# Altium schematic symbol library ACTION原理图库.SCHLIB: 124 symbols
Pins are listed as number, name and electrical type; pins without a type are passive.

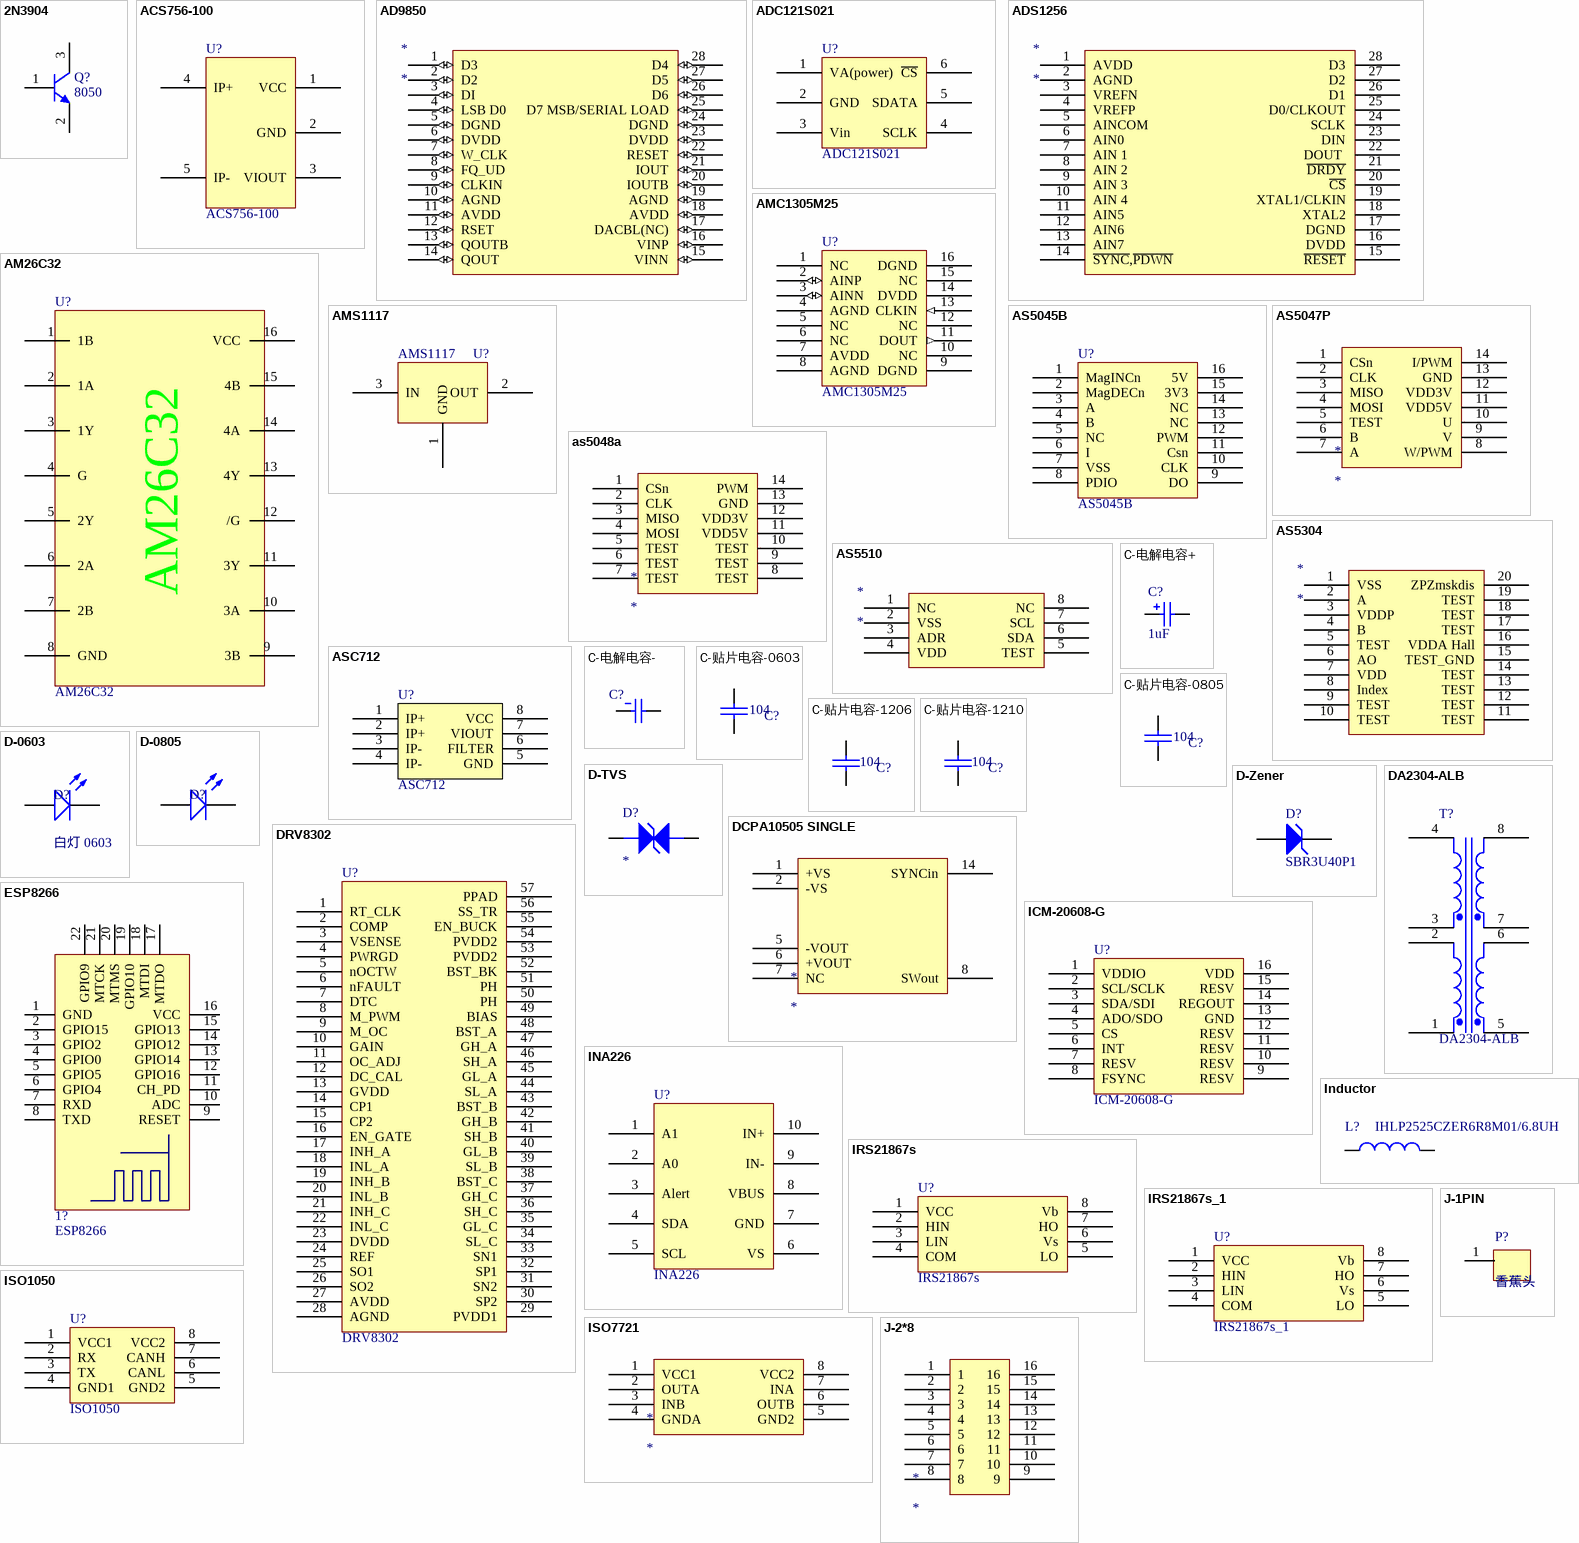
[diagram p0: symbols 2N3904 to J-2*8]

## 2N3904
designator Q?, comment 8050
NPN General Purpose Amplifier; Published: 8-Jun-2000; LatestRevisionDate: 15-Jan-2003; LatestRevisionNote: PCB Footprint 'BCY-W3/D4.7' replaced; DatasheetDocument: 1997; PackageDocument: Sep-1998; PackageReference: TO-92A; Publisher: Altium Limited; Code_JEDEC: TO-92A; ComponentLink1Description: Manufacturer Link; ComponentLink1URL: http://www.fairchildsemi.com/; ComponentLink2Description: Datasheet; ComponentLink2URL: http://www.fairchildsemi.com/ds/2N%2F2N3904.pdf
footprint SOT-233
pins: 1 B, 2 E, 3 C

## ACS756-100
designator U?
pins: 1 VCC, 2 GND, 3 VIOUT, 4 IP+, 5 IP-

## AD9850
designator *
pins: 1 D3 (io), 2 D2 (io), 3 DI (io), 4 LSB D0 (io), 5 DGND (io), 6 DVDD (io), 7 W_CLK (io), 8 FQ_UD (io), 9 CLKIN (io), 10 AGND (io), 11 AVDD (io), 12 RSET (io), 13 QOUTB (io), 14 QOUT (io), 15 VINN (io), 16 VINP (io), 17 DACBL(NC) (io), 18 AVDD (io), 19 AGND (io), 20 IOUTB (io), 21 IOUT (io), 22 RESET (io), 23 DVDD (io), 24 DGND (io), 25 D7 MSB/SERIAL LOAD (io), 26 D6 (io), 27 D5 (io), 28 D4 (io)

## ADC121S021
designator U?
pins: 1 VA(power), 2 GND, 3 Vin, 4 SCLK, 5 SDATA, 6 ~{CS}

## ADS1256
designator *
pins: 1 AVDD, 2 AGND, 3 VREFN, 4 VREFP, 5 AINCOM, 6 AIN0, 7 AIN 1, 8 AIN 2, 9 AIN 3, 10 AIN 4, 11 AIN5, 12 AIN6, 13 AIN7, 14 ~{SYNC},~{PDWN}, 15 ~{RESET}, 16 DVDD, 17 DGND, 18 XTAL2, 19 XTAL1/CLKIN, 20 ~{CS}, 21 ~{DRDY}, 22 DOUT , 23 DIN, 24 SCLK, 25 D0/CLKOUT, 26 D1, 27 D2, 28 D3

## AM26C32
designator U?
footprint SOIC-16 (SOIC, 16-Leads, Body 10.0x3.9mm (max), Pitch 1.27mm, IPC Medium Density)
pins: 1 1B, 2 1A, 3 1Y, 4 G, 5 2Y, 6 2A, 7 2B, 8 GND, 9 3B, 10 3A, 11 3Y, 12 /G, 13 4Y, 14 4A, 15 4B, 16 VCC

## AMC1305M25
designator U?
作者: 王鹏飞; HelpURL: C:\Users\Administrator\Desktop\三相驱动器资料\芯片选型\电流检测芯片选型\备选方案\TI\amc1305m25.pdf#page3
pins: 1 NC, 2 AINP (io) "同向模拟输入", 3 AINN (io) "反向模拟输入", 4 AGND, 5 NC, 6 NC, 7 AVDD (power) "高侧电", 8 AGND (power) "高侧地", 9 DGND "低侧地", 10 NC, 11 DOUT (out), 12 NC, 13 CLKIN (in), 14 DVDD (power) "低侧电", 15 NC, 16 DGND (power)

## AMS1117
designator U?
footprint SOT-223
pins: 1 GND, 2 OUT, 3 IN

## AS5045B
designator U?
footprint SSOP-16
pins: 1 MagINCn, 2 MagDECn, 3 A, 4 B, 5 NC, 6 I, 7 VSS, 8 PDIO, 9 DO, 10 CLK, 11 Csn, 12 PWM, 13 NC, 14 NC, 15 3V3, 16 5V

## AS5047P
designator *
pins: 1 CSn, 2 CLK, 3 MISO, 4 MOSI, 5 TEST, 6 B, 7 A, 8 W/PWM, 9 V, 10 U, 11 VDD5V, 12 VDD3V, 13 GND, 14 I/PWM

## as5048a
designator *
pins: 1 CSn, 2 CLK, 3 MISO, 4 MOSI, 5 TEST, 6 TEST, 7 TEST, 8 TEST, 9 TEST, 10 TEST, 11 VDD5V, 12 VDD3V, 13 GND, 14 PWM

## AS5304
designator *
pins: 1 VSS, 2 A, 3 VDDP, 4 B, 5 TEST, 6 AO, 7 VDD, 8 Index, 9 TEST, 10 TEST, 11 TEST, 12 TEST, 13 TEST, 14 TEST, 15 TEST_GND, 16 VDDA Hall, 17 TEST, 18 TEST, 19 TEST, 20 ZPZmskdis

## AS5510
designator *
pins: 1 NC, 2 VSS, 3 ADR, 4 VDD, 5 TEST, 6 SDA, 7 SCL, 8 NC

## ASC712
designator U?
footprint SOP-8 (SOP, 8-Leads, Body 5.0x4.0mm (max), Pitch 1.27mm, IPC Medium Density)
pins: 1 IP+, 2 IP+, 3 IP-, 4 IP-, 5 GND, 6 FILTER, 7 VIOUT, 8 VCC

## C-电解电容+
designator C?, comment value 1uF  (hidden comment: 105)
Published: 8-Jun-2000; LatestRevisionDate: 17-Jul-2002; LatestRevisionNote: Re-released for DXP Platform.; PackageReference: RB7.6-15; Publisher: Altium Limited
pins: 1, 2
1 alternate drawing of the same symbol

## C-电解电容-
designator C?, comment 105  (value not drawn)
pins: 1, 2

## C-贴片电容-0603
designator C?, comment value 104  (hidden comment: 100nF (104) 10% 50V)
贴片电容
footprint 0603_C
pins: 1, 2

## C-贴片电容-0805
designator C?, comment value 104  (hidden comment: 100nF (104) 10% 50V)
贴片电容
footprint 0805_C
pins: 1, 2

## C-贴片电容-1206
designator C?, comment value 104  (hidden comment: 100nF (104) 10% 50V)
贴片电容
footprint 1206_C
pins: 1, 2

## C-贴片电容-1210
designator C?, comment value 104  (hidden comment: 100nF (104) 10% 50V)
贴片电容
footprint 1210_C
pins: 1, 2

## D-0603
designator D?, comment 白灯 0603
发光二极管; Published: 8-Jun-2000; LatestRevisionDate: 17-Jul-2002; LatestRevisionNote: Re-released for DXP Platform.; PackageDocument: Sep-1996; PackageReference: SMC; Publisher: Altium Limited; Code_JEDEC: DO-214-AB
footprint 0603_LED_S1
pins: A, K

## D-0805
designator D?, comment 白灯 0603  (value not drawn)
发光二极管; Published: 8-Jun-2000; LatestRevisionDate: 17-Jul-2002; LatestRevisionNote: Re-released for DXP Platform.; PackageDocument: Sep-1996; PackageReference: SMC; Publisher: Altium Limited; Code_JEDEC: DO-214-AB
footprint 0805_LED_S1
pins: A, K

## D-TVS
designator D?
TVS
pins: A 1, K 2

## D-Zener
designator D?, comment SBR3U40P1
Diode, Schottky, 40V, 3A, PowerDI123; Published: 8-Jun-2000; LatestRevisionDate: 17-Jul-2002; LatestRevisionNote: Re-released for DXP Platform.; PackageReference: DIODE-0.7; Publisher: Altium Limited
footprint SBR3U40P1
pins: 1 A, 2 K

## DA2304-ALB
designator T?
pins: 1 26, 2 25, 3 24, 4 23, 5 27, 6 28, 7 29, 8 22

## DCPA10505 SINGLE
designator *
pins: 1 +VS, 2 -VS, 5 -VOUT, 6 +VOUT, 7 NC, 8 SWout, 14 SYNCin

## DRV8302
designator U?
footprint HTSSOP-56 (TSSOP, 56-Leads, Body 14.00x6.10mm, Pitch 0.50mm, Thermal Pad 6.35x3.61mm, IPC Medium Density)
pins: 1 RT_CLK, 2 COMP, 3 VSENSE, 4 PWRGD, 5 nOCTW, 6 nFAULT, 7 DTC, 8 M_PWM, 9 M_OC, 10 GAIN, 11 OC_ADJ, 12 DC_CAL, 13 GVDD, 14 CP1, 15 CP2, 16 EN_GATE, 17 INH_A, 18 INL_A, 19 INH_B, 20 INL_B, 21 INH_C, 22 INL_C, 23 DVDD, 24 REF, 25 SO1, 26 SO2, 27 AVDD, 28 AGND, 29 PVDD1, 30 SP2, 31 SN2, 32 SP1, 33 SN1, 34 SL_C, 35 GL_C, 36 SH_C, 37 GH_C, 38 BST_C, 39 SL_B, 40 GL_B, 41 SH_B, 42 GH_B, 43 BST_B, 44 SL_A, 45 GL_A, 46 SH_A, 47 GH_A, 48 BST_A, 49 BIAS, 50 PH, 51 PH, 52 BST_BK, 53 PVDD2, 54 PVDD2, 55 EN_BUCK, 56 SS_TR, 57 PPAD

## ESP8266
designator 1?
pins: 1 GND (oe), 2 GPIO15, 3 GPIO2, 4 GPIO0, 5 GPIO5, 6 GPIO4, 7 RXD, 8 TXD, 9 RESET, 10 ADC, 11 CH_PD, 12 GPIO16, 13 GPIO14, 14 GPIO12, 15 GPIO13, 16 VCC, 17 MTDO, 18 MTDI, 19 GPIO10, 20 MTMS, 21 MTCK, 22 GPIO9

## ICM-20608-G
designator U?
pins: 1 VDDIO, 2 SCL/SCLK, 3 SDA/SDI, 4 ADO/SDO, 5 CS, 6 INT, 7 RESV, 8 FSYNC, 9 RESV, 10 RESV, 11 RESV, 12 RESV, 13 GND, 14 REGOUT, 15 RESV, 16 VDD

## INA226
designator U?
pins: 1 A1, 2 A0, 3 Alert, 4 SDA, 5 SCL, 6 VS, 7 GND, 8 VBUS, 9 IN-, 10 IN+

## Inductor
designator L?, comment IHLP2525CZER6R8M01/6.8UH
Inductor; Code_IEC: 1005; Value: 4.7uh; Published: 8-Jun-2000; LatestRevisionDate: 17-Jul-2002; LatestRevisionNote: Re-released for DXP Platform.; PackageReference: 0402-A; Publisher: Altium Limited; Code_JEITA: 0402
footprint L-RH73 (Molded Capacitor, 2-Leads, Body 6.9x6.5mm, IPC Medium Density)
pins: 1, 2

## IRS21867s
designator U?
footprint sop-8 (SOP, 8-Leads, Body 5.0x4.0mm (max), Pitch 1.27mm, IPC Medium Density)
pins: 1 VCC, 2 HIN, 3 LIN, 4 COM, 5 LO, 6 Vs, 7 HO, 8 Vb

## IRS21867s_1
designator U?
footprint sop-8 (SOP, 8-Leads, Body 5.0x4.0mm (max), Pitch 1.27mm, IPC Medium Density)
pins: 1 VCC, 2 HIN, 3 LIN, 4 COM, 5 LO, 6 Vs, 7 HO, 8 Vb

## ISO1050
designator U?
footprint SO-8W
pins: 1 VCC1, 2 RX, 3 TX, 4 GND1, 5 GND2, 6 CANL, 7 CANH, 8 VCC2

## ISO7721
designator *
pins: 1 VCC1, 2 OUTA, 3 INB, 4 GNDA, 5 GND2, 6 OUTB, 7 INA, 8 VCC2

## J-1PIN
designator P?, comment 香蕉头
pins: 1 15

## J-2*8
designator *
pins: 1, 2, 3, 4, 5, 6, 7, 8, 9, 10, 11, 12, 13, 14, 15, 16

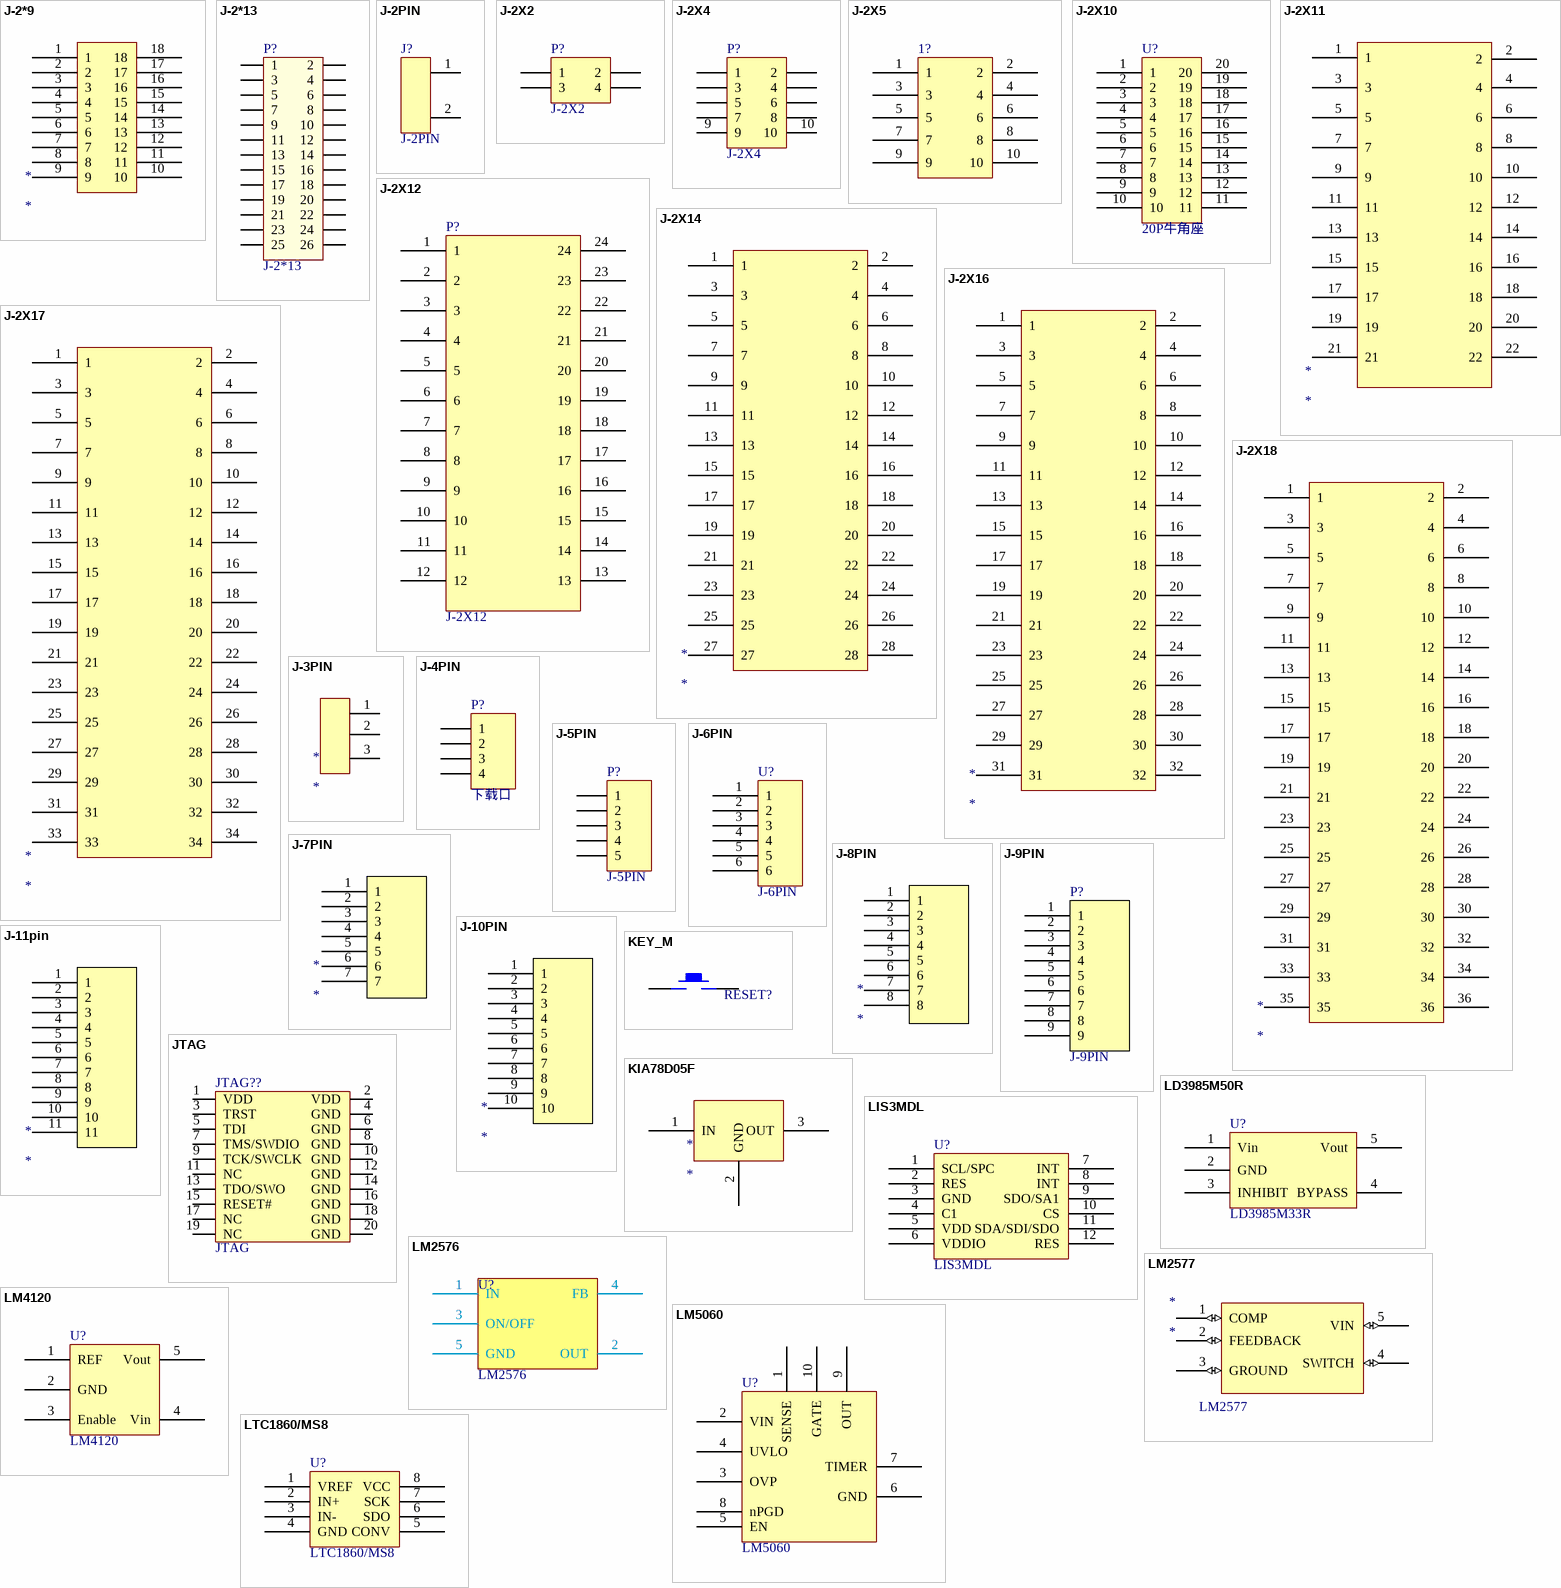
[diagram p1: symbols J-2*9 to LTC1860/MS8]

## J-2*9
designator *
pins: 1, 2, 3, 4, 5, 6, 7, 8, 9, 10, 11, 12, 13, 14, 15, 16, 17, 18

## J-2*13
designator P?
pins: 1, 2, 3, 4, 5, 6, 7, 8, 9, 10, 11, 12, 13, 14, 15, 16, 17, 18, 19, 20, 21, 22, 23, 24, 25, 26

## J-2PIN
designator J?
SOCKET
pins: 1, 2

## J-2X2
designator P?
Header, 2-Pin, Dual row; LatestRevisionDate: 17-Jul-2002; LatestRevisionNote: Re-released for DXP Platform.; Publisher: Altium Limited
pins: 1, 2, 3, 4

## J-2X4
designator P?
Header, 4-Pin, Dual row; LatestRevisionDate: 17-Jul-2002; LatestRevisionNote: Re-released for DXP Platform.; Publisher: Altium Limited
pins: 1, 2, 3, 4, 5, 6, 7, 8, 9, 10

## J-2X5
designator 1?
pins: 1, 2, 3, 4, 5, 6, 7, 8, 9, 10

## J-2X10
designator U?, comment 20P牛角座
1.27-20P牛角座
pins: 1, 2, 3, 4, 5, 6, 7, 8, 9, 10, 11, 12, 13, 14, 15, 16, 17, 18, 19, 20

## J-2X11
designator *
footprint HDR2X11 (Connector; Header; 11x2 Position)
pins: 1, 2, 3, 4, 5, 6, 7, 8, 9, 10, 11, 12, 13, 14, 15, 16, 17, 18, 19, 20, 21, 22

## J-2X12
designator P?
pins: 1, 2, 3, 4, 5, 6, 7, 8, 9, 10, 11, 12, 13, 14, 15, 16, 17, 18, 19, 20, 21, 22, 23, 24

## J-2X14
designator *
pins: 1, 2, 3, 4, 5, 6, 7, 8, 9, 10, 11, 12, 13, 14, 15, 16, 17, 18, 19, 20, 21, 22, 23, 24, 25, 26, 27, 28

## J-2X16
designator *
pins: 1, 2, 3, 4, 5, 6, 7, 8, 9, 10, 11, 12, 13, 14, 15, 16, 17, 18, 19, 20, 21, 22, 23, 24, 25, 26, 27, 28, 29, 30, 31, 32

## J-2X17
designator *
pins: 1, 2, 3, 4, 5, 6, 7, 8, 9, 10, 11, 12, 13, 14, 15, 16, 17, 18, 19, 20, 21, 22, 23, 24, 25, 26, 27, 28, 29, 30, 31, 32, 33, 34

## J-2X18
designator *
pins: 1, 2, 3, 4, 5, 6, 7, 8, 9, 10, 11, 12, 13, 14, 15, 16, 17, 18, 19, 20, 21, 22, 23, 24, 25, 26, 27, 28, 29, 30, 31, 32, 33, 34, 35, 36

## J-3PIN
designator *
pins: 1, 2, 3 2

## J-4PIN
designator P?, comment 下载口
Header, 4-Pin; LatestRevisionDate: 17-Jul-2002; LatestRevisionNote: Re-released for DXP Platform.; Publisher: Altium Limited
pins: 1, 2, 3, 4

## J-5PIN
designator P?
Header, 5-Pin; LatestRevisionDate: 17-Jul-2002; LatestRevisionNote: Re-released for DXP Platform.; Publisher: Altium Limited
pins: 1, 2, 3, 4, 5

## J-6PIN
designator U?
pins: 1, 2, 3, 4, 5, 6

## J-7PIN
designator *
pins: 1, 2, 3, 4, 5, 6, 7

## J-8PIN
designator *
pins: 1, 2, 3, 4, 5, 6, 7, 8

## J-9PIN
designator P?
pins: 1, 2, 3, 4, 5, 6, 7, 8, 9

## J-10PIN
designator *
pins: 1, 2, 3, 4, 5, 6, 7, 8, 9, 10

## J-11pin
designator *
pins: 1, 2, 3, 4, 5, 6, 7, 8, 9, 10, 11

## JTAG
designator JTAG??
footprint JTAG (ULINK_JTAG-20)
footprint JTAG_20
footprint JTAG_20
footprint JTAG_20
pins: 1 VDD, 2 VDD, 3 TRST, 4 GND, 5 TDI, 6 GND, 7 TMS/SWDIO, 8 GND, 9 TCK/SWCLK, 10 GND, 11 NC, 12 GND, 13 TDO/SWO, 14 GND, 15 RESET#, 16 GND, 17 NC, 18 GND, 19 NC, 20 GND

## KEY_M
designator RESET?  (value not drawn)
footprint 按键2脚
pins: 1, 2

## KIA78D05F
designator *
pins: 1 IN, 2 GND, 3 OUT

## LD3985M50R
designator U?, comment LD3985M33R
LD3985M50R
pins: 1 Vin, 2 GND, 3 INHIBIT, 4 BYPASS, 5 Vout

## LIS3MDL
designator U?
pins: 1 SCL/SPC, 2 RES, 3 GND, 4 C1, 5 VDD, 6 VDDIO, 7 INT, 8 INT, 9 SDO/SA1, 10 CS, 11 SDA/SDI/SDO, 12 RES

## LM2576
designator U?
footprint TO-236-5 (SOT223, 6-Leads, Body 10.7x15.9mm (max), Pitch 1.70mm, IPC Medium Density)
pins: 1 IN, 2 OUT, 3 ON/OFF, 4 FB, 5 GND

## LM2577
designator *
pins: 1 COMP (io), 2 FEEDBACK (io), 3 GROUND (io), 4 SWITCH (io), 5 VIN (io)

## LM4120
designator U?
pins: 1 REF, 2 GND, 3 Enable, 4 Vin, 5 Vout

## LM5060
designator U?
pins: 1 SENSE, 2 VIN, 3 OVP, 4 UVLO, 5 EN, 6 GND, 7 TIMER, 8 nPGD, 9 OUT, 10 GATE

## LTC1860/MS8
designator U?
LTC1860
pins: 1 VREF, 2 IN+, 3 IN-, 4 GND, 5 CONV, 6 SDO, 7 SCK, 8 VCC

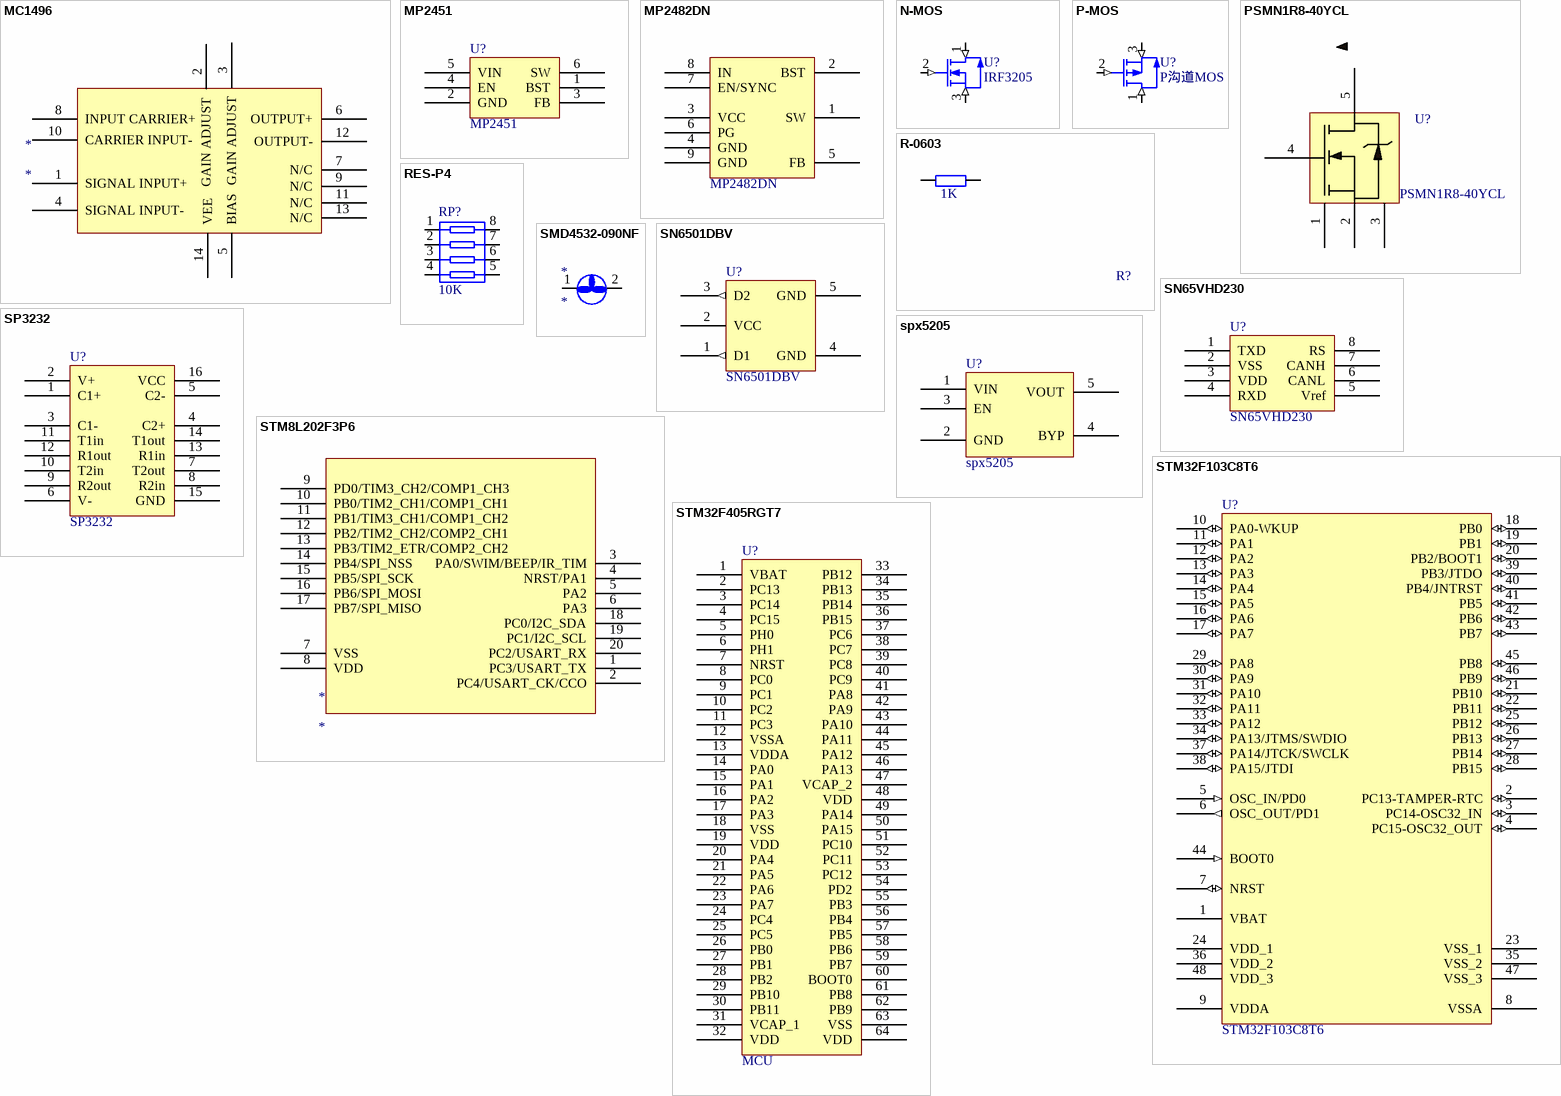
[diagram p2: symbols MC1496 to STM32F405RGT7]

## MC1496
designator *
pins: 1 SIGNAL INPUT+, 2 GAIN ADJUST, 3 GAIN ADJUST, 4 SIGNAL INPUT-, 5 BIAS, 6 OUTPUT+, 7 N/C, 8 INPUT CARRIER+, 9 N/C, 10 CARRIER INPUT-, 11 N/C, 12 OUTPUT-, 13 N/C, 14 VEE

## MP2451
designator U?
pins: 1 BST, 2 GND, 3 FB, 4 EN, 5 VIN, 6 SW

## MP2482DN
designator ?
footprint MP2482DN
pins: 1 SW, 2 BST, 3 VCC, 4 GND, 5 FB, 6 PG, 7 EN/SYNC, 8 IN, 9 GND

## N-MOS
designator U?, comment IRF3205
pins: 1 D (in), 2 G (in), 3 S (in)

## P-MOS
designator U?, comment P沟道MOS
pins: 1 D (in), 2 G (in), 3 S (in)

## PSMN1R8-40YCL
designator U?
pins: 1 S, 2 S, 3 S, 4 G, 5 D

## R-0603
designator R?, comment value 1K  (hidden comment: 1KΩ (102) ±1%)
贴片电阻; Package: 0603
footprint 0603_R
pins: 1, 2

## RES-P4
designator RP?, comment 10K
pins: 1, 2, 3, 4, 5, 6, 7, 8
2 alternate drawings of the same symbol

## SMD4532-090NF
designator *
pins: 1, 2

## SN65VHD230
designator U?
footprint SOp-8 (SOP, 8-Leads, Body 5.0x4.0mm (max), Pitch 1.27mm, IPC Medium Density)
pins: 1 TXD, 2 VSS, 3 VDD, 4 RXD, 5 Vref, 6 CANL, 7 CANH, 8 RS

## SN6501DBV
designator U?
pins: 1 D1 (out), 2 VCC (power), 3 D2 (out), 4 GND (power), 5 GND (power)

## SP3232
designator U?
pins: 1 C1+, 2 V+, 3 C1-, 4 C2+, 5 C2-, 6 V-, 7 T2out, 8 R2in, 9 R2out, 10 T2in, 11 T1in, 12 R1out, 13 R1in, 14 T1out, 15 GND, 16 VCC

## spx5205
designator U?
footprint SOT-235 (SOT23, 5-Leads, Body 3.0x2.6mm (max), Pitch 0.95mm, IPC Medium Density)
pins: 1 VIN, 2 GND, 3 EN, 4 BYP, 5 VOUT

## STM8L202F3P6
designator *
pins: 1 PC3/USART_TX (power), 2 PC4/USART_CK/CCO (power), 3 PA0/SWIM/BEEP/IR_TIM (power), 4 NRST/PA1 (power), 5 PA2, 6 PA3, 7 VSS (power), 8 VDD (power), 9 PD0/TIM3_CH2/COMP1_CH3, 10 PB0/TIM2_CH1/COMP1_CH1, 11 PB1/TIM3_CH1/COMP1_CH2 (power), 12 PB2/TIM2_CH2/COMP2_CH1 (power), 13 PB3/TIM2_ETR/COMP2_CH2, 14 PB4/SPI_NSS, 15 PB5/SPI_SCK, 16 PB6/SPI_MOSI, 17 PB7/SPI_MISO (power), 18 PC0/I2C_SDA, 19 PC1/I2C_SCL, 20 PC2/USART_RX

## STM32F103C8T6
designator U?
footprint LQFP-48
pins: 1 VBAT (power), 2 PC13-TAMPER-RTC (io), 3 PC14-OSC32_IN (io), 4 PC15-OSC32_OUT (io), 5 OSC_IN/PD0 (in), 6 OSC_OUT/PD1 (out), 7 NRST (io), 8 VSSA (power), 9 VDDA (power), 10 PA0-WKUP (io), 11 PA1 (io), 12 PA2 (io), 13 PA3 (io), 14 PA4 (io), 15 PA5 (io), 16 PA6 (io), 17 PA7 (io), 18 PB0 (io), 19 PB1 (io), 20 PB2/BOOT1 (io), 21 PB10 (io), 22 PB11 (io), 23 VSS_1 (power), 24 VDD_1 (power), 25 PB12 (io), 26 PB13 (io), 27 PB14 (io), 28 PB15 (io), 29 PA8 (io), 30 PA9 (io), 31 PA10 (io), 32 PA11 (io), 33 PA12 (io), 34 PA13/JTMS/SWDIO (io), 35 VSS_2 (power), 36 VDD_2 (power), 37 PA14/JTCK/SWCLK (io), 38 PA15/JTDI (io), 39 PB3/JTDO (io), 40 PB4/JNTRST (io), 41 PB5 (io), 42 PB6 (io), 43 PB7 (io), 44 BOOT0 (in), 45 PB8 (io), 46 PB9 (io), 47 VSS_3 (power), 48 VDD_3 (power)

## STM32F405RGT7
designator U?, comment MCU
footprint LQFP-64
pins: 1 VBAT, 2 PC13, 3 PC14, 4 PC15, 5 PH0, 6 PH1, 7 NRST, 8 PC0, 9 PC1, 10 PC2, 11 PC3, 12 VSSA, 13 VDDA, 14 PA0, 15 PA1, 16 PA2, 17 PA3, 18 VSS, 19 VDD, 20 PA4, 21 PA5, 22 PA6, 23 PA7, 24 PC4, 25 PC5, 26 PB0, 27 PB1, 28 PB2, 29 PB10, 30 PB11, 31 VCAP_1, 32 VDD, 33 PB12, 34 PB13, 35 PB14, 36 PB15, 37 PC6, 38 PC7, 39 PC8, 40 PC9, 41 PA8, 42 PA9, 43 PA10, 44 PA11, 45 PA12, 46 PA13, 47 VCAP_2, 48 VDD, 49 PA14, 50 PA15, 51 PC10, 52 PC11, 53 PC12, 54 PD2, 55 PB3, 56 PB4, 57 PB5, 58 PB6, 59 PB7, 60 BOOT0, 61 PB8, 62 PB9, 63 VSS, 64 VDD

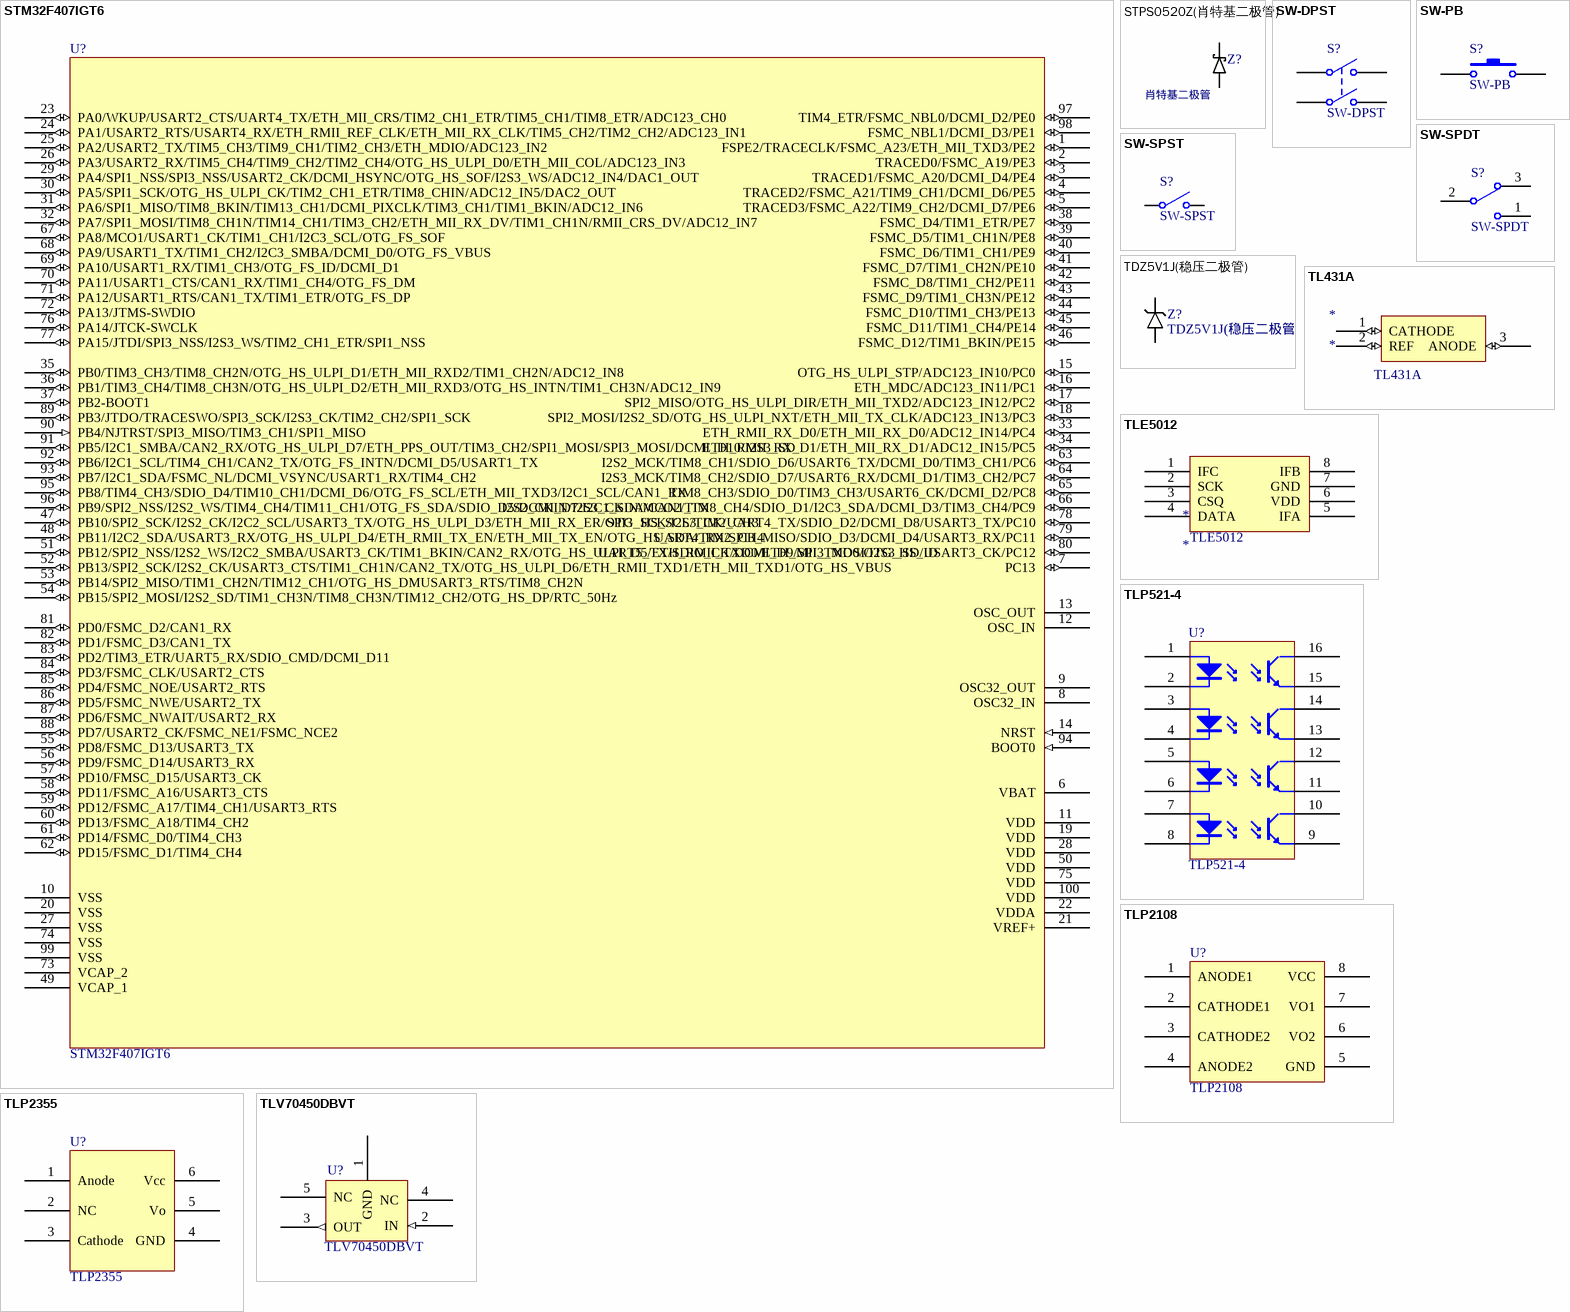
[diagram p3: symbols STM32F407IGT6 to TLV70450DBVT]

## STM32F407IGT6
designator U?
pins: 1 FSPE2/TRACECLK/FSMC_A23/ETH_MII_TXD3/PE2 (io), 2 TRACED0/FSMC_A19/PE3 (io), 3 TRACED1/FSMC_A20/DCMI_D4/PE4 (io), 4 TRACED2/FSMC_A21/TIM9_CH1/DCMI_D6/PE5 (io), 5 TRACED3/FSMC_A22/TIM9_CH2/DCMI_D7/PE6 (io), 6 VBAT, 7 PC13 (io), 8 OSC32_IN, 9 OSC32_OUT, 10 VSS (power), 11 VDD, 12 OSC_IN, 13 OSC_OUT, 14 NRST (in), 15 OTG_HS_ULPI_STP/ADC123_IN10/PC0 (io), 16 ETH_MDC/ADC123_IN11/PC1 (io), 17 SPI2_MISO/OTG_HS_ULPI_DIR/ETH_MII_TXD2/ADC123_IN12/PC2 (io), 18 SPI2_MOSI/I2S2_SD/OTG_HS_ULPI_NXT/ETH_MII_TX_CLK/ADC123_IN13/PC3 (io), 19 VDD, 20 VSS (power), 21 VREF+, 22 VDDA, 23 PA0/WKUP/USART2_CTS/UART4_TX/ETH_MII_CRS/TIM2_CH1_ETR/TIM5_CH1/TIM8_ETR/ADC123_CH0 (io), 24 PA1/USART2_RTS/USART4_RX/ETH_RMII_REF_CLK/ETH_MII_RX_CLK/TIM5_CH2/TIM2_CH2/ADC123_IN1 (io), 25 PA2/USART2_TX/TIM5_CH3/TIM9_CH1/TIM2_CH3/ETH_MDIO/ADC123_IN2 (io), 26 PA3/USART2_RX/TIM5_CH4/TIM9_CH2/TIM2_CH4/OTG_HS_ULPI_D0/ETH_MII_COL/ADC123_IN3 (io), 27 VSS (power), 28 VDD, 29 PA4/SPI1_NSS/SPI3_NSS/USART2_CK/DCMI_HSYNC/OTG_HS_SOF/I2S3_WS/ADC12_IN4/DAC1_OUT (io), 30 PA5/SPI1_SCK/OTG_HS_ULPI_CK/TIM2_CH1_ETR/TIM8_CHIN/ADC12_IN5/DAC2_OUT (io), 31 PA6/SPI1_MISO/TIM8_BKIN/TIM13_CH1/DCMI_PIXCLK/TIM3_CH1/TIM1_BKIN/ADC12_IN6 (io), 32 PA7/SPI1_MOSI/TIM8_CH1N/TIM14_CH1/TIM3_CH2/ETH_MII_RX_DV/TIM1_CH1N/RMII_CRS_DV/ADC12_IN7 (io), 33 ETH_RMII_RX_D0/ETH_MII_RX_D0/ADC12_IN14/PC4 (io), 34 ETH_RMII_RX_D1/ETH_MII_RX_D1/ADC12_IN15/PC5 (io), 35 PB0/TIM3_CH3/TIM8_CH2N/OTG_HS_ULPI_D1/ETH_MII_RXD2/TIM1_CH2N/ADC12_IN8 (io), 36 PB1/TIM3_CH4/TIM8_CH3N/OTG_HS_ULPI_D2/ETH_MII_RXD3/OTG_HS_INTN/TIM1_CH3N/ADC12_IN9 (io), 37 PB2-BOOT1 (io), 38 FSMC_D4/TIM1_ETR/PE7 (io), 39 FSMC_D5/TIM1_CH1N/PE8 (io), 40 FSMC_D6/TIM1_CH1/PE9 (io), 41 FSMC_D7/TIM1_CH2N/PE10 (io), 42 FSMC_D8/TIM1_CH2/PE11 (io), 43 FSMC_D9/TIM1_CH3N/PE12 (io), 44 FSMC_D10/TIM1_CH3/PE13 (io), 45 FSMC_D11/TIM1_CH4/PE14 (io), 46 FSMC_D12/TIM1_BKIN/PE15 (io), 47 PB10/SPI2_SCK/I2S2_CK/I2C2_SCL/USART3_TX/OTG_HS_ULPI_D3/ETH_MII_RX_ER/OTG_HS_SCL/TIM2_CH3 (io), 48 PB11/I2C2_SDA/USART3_RX/OTG_HS_ULPI_D4/ETH_RMII_TX_EN/ETH_MII_TX_EN/OTG_HS_SDA/TIM2_CH4 (io), 49 VCAP_1, 50 VDD, 51 PB12/SPI2_NSS/I2S2_WS/I2C2_SMBA/USART3_CK/TIM1_BKIN/CAN2_RX/OTG_HS_ULPI_D5/ETH_RMII_TXD0/ETH_MII_TXD0/OTG_HS_ID (io), 52 PB13/SPI2_SCK/I2S2_CK/USART3_CTS/TIM1_CH1N/CAN2_TX/OTG_HS_ULPI_D6/ETH_RMII_TXD1/ETH_MII_TXD1/OTG_HS_VBUS (io), 53 PB14/SPI2_MISO/TIM1_CH2N/TIM12_CH1/OTG_HS_DMUSART3_RTS/TIM8_CH2N (io), 54 PB15/SPI2_MOSI/I2S2_SD/TIM1_CH3N/TIM8_CH3N/TIM12_CH2/OTG_HS_DP/RTC_50Hz (io), 55 PD8/FSMC_D13/USART3_TX (io), 56 PD9/FSMC_D14/USART3_RX (io), 57 PD10/FMSC_D15/USART3_CK (io), 58 PD11/FSMC_A16/USART3_CTS (io), 59 PD12/FSMC_A17/TIM4_CH1/USART3_RTS (io), 60 PD13/FSMC_A18/TIM4_CH2 (io), 61 PD14/FSMC_D0/TIM4_CH3 (io), 62 PD15/FSMC_D1/TIM4_CH4 (io), 63 I2S2_MCK/TIM8_CH1/SDIO_D6/USART6_TX/DCMI_D0/TIM3_CH1/PC6 (io), 64 I2S3_MCK/TIM8_CH2/SDIO_D7/USART6_RX/DCMI_D1/TIM3_CH2/PC7 (io), 65 TIM8_CH3/SDIO_D0/TIM3_CH3/USART6_CK/DCMI_D2/PC8 (io), 66 I2S2_CKIN/I2S3_CKIN/MCO2/TIM8_CH4/SDIO_D1/I2C3_SDA/DCMI_D3/TIM3_CH4/PC9 (io), 67 PA8/MCO1/USART1_CK/TIM1_CH1/I2C3_SCL/OTG_FS_SOF (io), 68 PA9/USART1_TX/TIM1_CH2/I2C3_SMBA/DCMI_D0/OTG_FS_VBUS (io), 69 PA10/USART1_RX/TIM1_CH3/OTG_FS_ID/DCMI_D1 (io), 70 PA11/USART1_CTS/CAN1_RX/TIM1_CH4/OTG_FS_DM (io), 71 PA12/USART1_RTS/CAN1_TX/TIM1_ETR/OTG_FS_DP (io), 72 PA13/JTMS-SWDIO (io), 73 VCAP_2, 74 VSS, 75 VDD, 76 PA14/JTCK-SWCLK (io), 77 PA15/JTDI/SPI3_NSS/I2S3_WS/TIM2_CH1_ETR/SPI1_NSS (io), 78 SPI3_SCK/I2S3_CK/UART4_TX/SDIO_D2/DCMI_D8/USART3_TX/PC10 (io), 79 UART4_RX/SPI3_MISO/SDIO_D3/DCMI_D4/USART3_RX/PC11 (io), 80 UART5_TX/SDIO_CK/DCMI_D9/SPI3_MOSI/I2S3_SD/USART3_CK/PC12 (io), 81 PD0/FSMC_D2/CAN1_RX (io), 82 PD1/FSMC_D3/CAN1_TX (io), 83 PD2/TIM3_ETR/UART5_RX/SDIO_CMD/DCMI_D11 (io), 84 PD3/FSMC_CLK/USART2_CTS (io), 85 PD4/FSMC_NOE/USART2_RTS (io), 86 PD5/FSMC_NWE/USART2_TX (io), 87 PD6/FSMC_NWAIT/USART2_RX (io), 88 PD7/USART2_CK/FSMC_NE1/FSMC_NCE2 (io), 89 PB3/JTDO/TRACESWO/SPI3_SCK/I2S3_CK/TIM2_CH2/SPI1_SCK (io), 90 PB4/NJTRST/SPI3_MISO/TIM3_CH1/SPI1_MISO (in), 91 PB5/I2C1_SMBA/CAN2_RX/OTG_HS_ULPI_D7/ETH_PPS_OUT/TIM3_CH2/SPI1_MOSI/SPI3_MOSI/DCMI_D10/I2S3_SD (io), 92 PB6/I2C1_SCL/TIM4_CH1/CAN2_TX/OTG_FS_INTN/DCMI_D5/USART1_TX (io), 93 PB7/I2C1_SDA/FSMC_NL/DCMI_VSYNC/USART1_RX/TIM4_CH2 (io), 94 BOOT0 (in), 95 PB8/TIM4_CH3/SDIO_D4/TIM10_CH1/DCMI_D6/OTG_FS_SCL/ETH_MII_TXD3/I2C1_SCL/CAN1_RX (io), 96 PB9/SPI2_NSS/I2S2_WS/TIM4_CH4/TIM11_CH1/OTG_FS_SDA/SDIO_D5/DCMI_D7/I2C1_SDA/CAN1_TX (io), 97 TIM4_ETR/FSMC_NBL0/DCMI_D2/PE0 (io), 98 FSMC_NBL1/DCMI_D3/PE1 (io), 99 VSS (power), 100 VDD (power)

## STPS0520Z(肖特基二极管)
designator Z?, comment 肖特基二极管
pins: 1, 2

## SW-DPST
designator S?
Double-Pole, Single-Throw Switch; Published: 24-Mar-1999; LatestRevisionDate: 17-Jul-2002; LatestRevisionNote: Re-released for DXP Platform.; PackageReference: DPST-4; Publisher: Altium Limited
pins: 1 COMMON1, 2 NO1, 3 COMMON2, 4 NO2

## SW-PB
designator S?
Switch; Published: 24-Mar-1999; LatestRevisionDate: 17-Jul-2002; LatestRevisionNote: Re-released for DXP Platform.; PackageReference: SPST-2; Publisher: Altium Limited
pins: 1, 2

## SW-SPDT
designator S?
SPDT Subminiature Toggle Switch, Right Angle Mounting, Vertical Actuation; Published: 24-Mar-1999; LatestRevisionDate: 17-Dec-2003; LatestRevisionNote: Schematic revised, PCB Footprint replaced.; DatasheetDocument: 05-Dec-2000; PackageReference: TL36WW15050; Publisher: Altium Limited; ComponentLink1Description: Manufacturer Link; ComponentLink1URL: http://www.apem.com
pins: 1, 2, 3

## SW-SPST
designator S?
Single-Pole, Single-Throw Switch; Published: 24-Mar-1999; LatestRevisionDate: 17-Jul-2002; LatestRevisionNote: Re-released for DXP Platform.; PackageReference: SPST-2; Publisher: Altium Limited
pins: 1 COMMON, 2 NO

## TDZ5V1J(稳压二极管)
designator Z?
pins: 1, 2

## TL431A
designator *
pins: 1 CATHODE (io), 2 REF (io), 3 ANODE (io)

## TLE5012
designator *
pins: 1 IFC, 2 SCK, 3 CSQ, 4 DATA, 5 IFA, 6 VDD, 7 GND, 8 IFB

## TLP521-4
designator U?
pins: 1, 2, 3, 4, 5, 6, 7, 8, 9, 10, 11, 12, 13, 14, 15, 16
2 alternate drawings of the same symbol

## TLP2108
designator U?
footprint SOIC-8 (SOIC, 8-Leads, Body 5.0x4.0mm (max), Pitch 1.27mm, IPC Medium Density)
pins: 1 ANODE1, 2 CATHODE1, 3 CATHODE2, 4 ANODE2, 5 GND, 6 VO2, 7 VO1, 8 VCC

## TLP2355
designator U?
pins: 1 Anode, 2 NC, 3 Cathode, 4 GND, 5 Vo, 6 Vcc

## TLV70450DBVT
designator U?
pins: 1 GND, 2 IN (in), 3 OUT (out), 4 NC, 5 NC

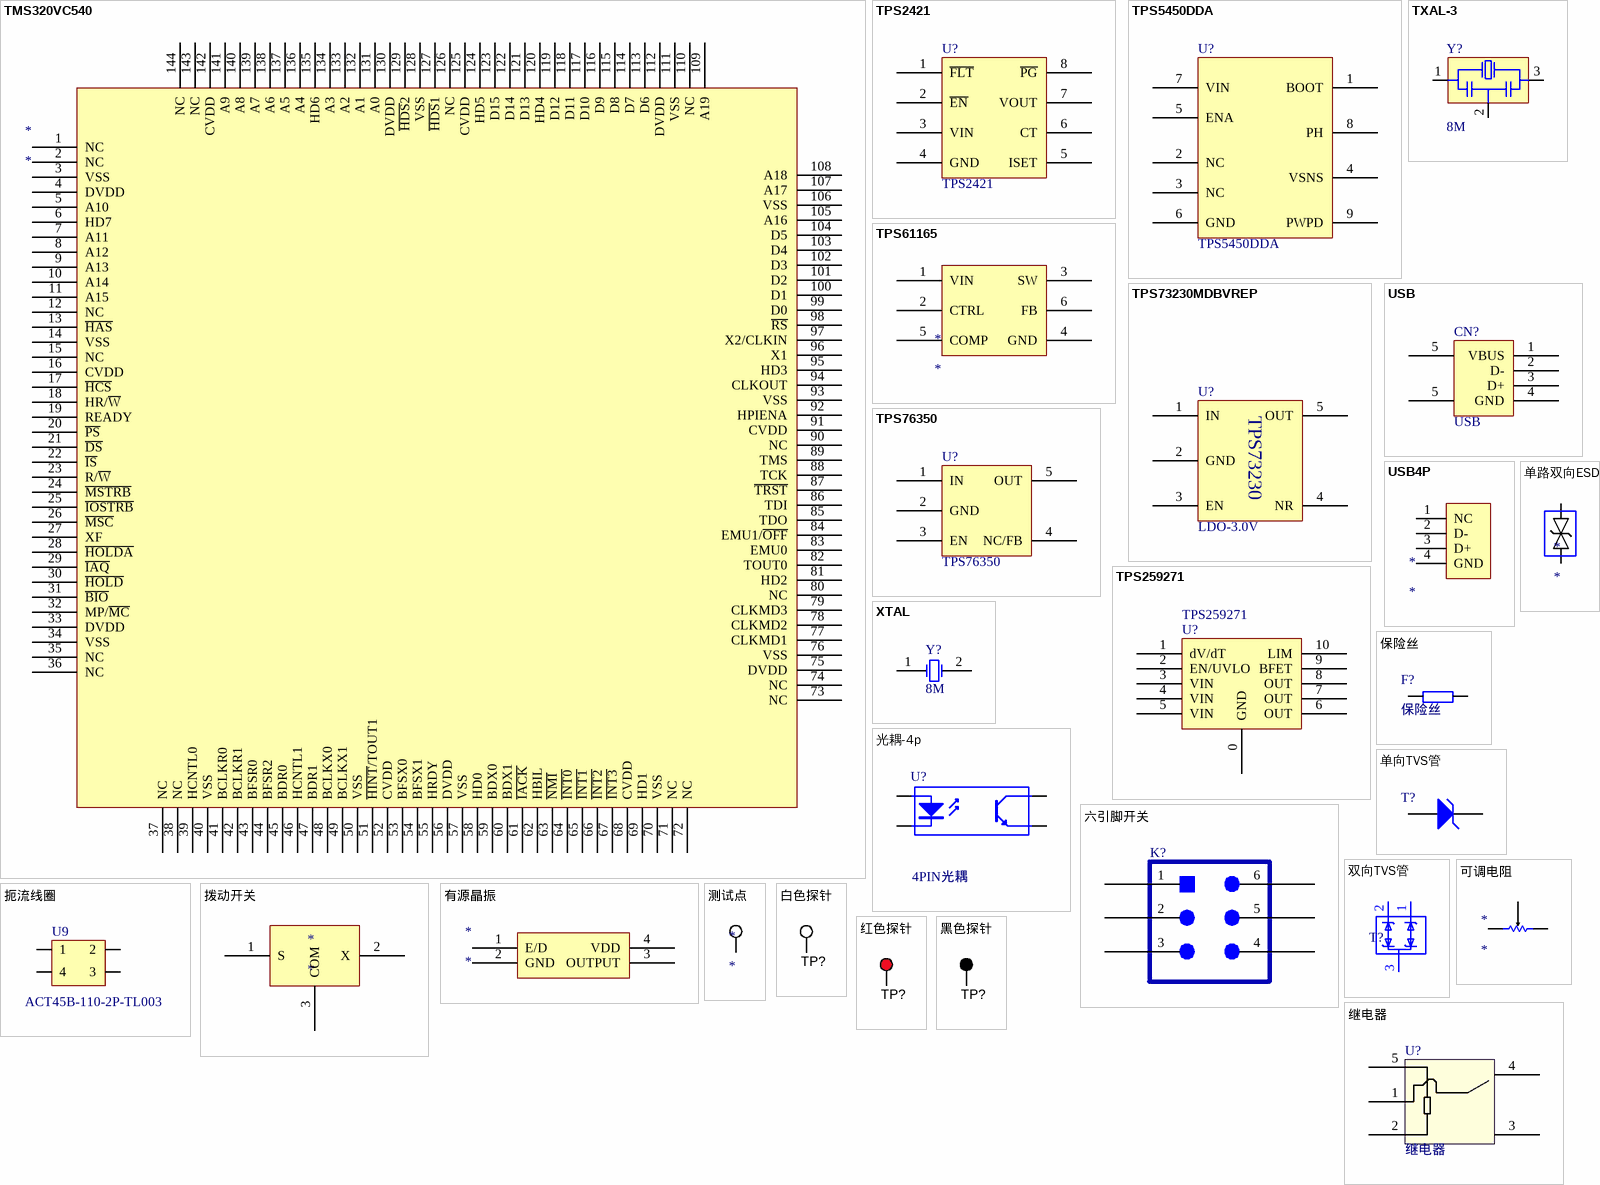
[diagram p4: symbols TMS320VC540 to 黑色探针]

## TMS320VC540
designator *
pins: 1 NC, 2 NC, 3 VSS, 4 DVDD, 5 A10, 6 HD7, 7 A11, 8 A12, 9 A13, 10 A14, 11 A15, 12 NC, 13 ~{HAS}, 14 VSS, 15 NC, 16 CVDD, 17 ~{HCS}, 18 HR/~{W}, 19 READY, 20 ~{PS}, 21 ~{DS}, 22 ~{IS}, 23 R/~{W}, 24 ~{MSTRB}, 25 ~{IOSTRB}, 26 ~{MSC}, 27 XF, 28 ~{HOLDA}, 29 ~{IAQ}, 30 ~{HOLD}, 31 ~{BIO}, 32 MP/~{MC}, 33 DVDD, 34 VSS, 35 NC, 36 NC, 37 NC, 38 NC, 39 HCNTL0, 40 VSS, 41 BCLKR0, 42 BCLKR1, 43 BFSR0, 44 BFSR2, 45 BDR0, 46 HCNTL1, 47 BDR1, 48 BCLKX0, 49 BCLKX1, 50 VSS, 51 ~{HINT}/TOUT1, 52 CVDD, 53 BFSX0, 54 BFSX1, 55 HRDY, 56 DVDD, 57 VSS, 58 HD0, 59 BDX0, 60 BDX1, 61 ~{IACK}, 62 HBIL, 63 ~{NMI}, 64 ~{INT0}, 65 ~{INT1}, 66 ~{INT2}, 67 ~{INT3}, 68 CVDD, 69 HD1, 70 VSS, 71 NC, 72 NC, 73 NC, 74 NC, 75 DVDD, 76 VSS, 77 CLKMD1, 78 CLKMD2, 79 CLKMD3, 80 NC, 81 HD2, 82 TOUT0, 83 EMU0, 84 EMU1/~{OFF}, 85 TDO, 86 TDI, 87 ~{TRST}, 88 TCK, 89 TMS, 90 NC, 91 CVDD, 92 HPIENA, 93 VSS, 94 CLKOUT, 95 HD3, 96 X1, 97 X2/CLKIN, 98 ~{RS}, 99 D0, 100 D1, 101 D2, 102 D3, 103 D4, 104 D5, 105 A16, 106 VSS, 107 A17, 108 A18, 109 A19, 110 NC, 111 VSS, 112 DVDD, 113 D6, 114 D7, 115 D8, 116 D9, 117 D10, 118 D11, 119 D12, 120 HD4, 121 D13, 122 D14, 123 D15, 124 HD5, 125 CVDD, 126 NC, 127 ~{HDS}1, 128 VSS, 129 ~{HDS}2, 130 DVDD, 131 A0, 132 A1, 133 A2, 134 A3, 135 HD6, 136 A4, 137 A5, 138 A6, 139 A7, 140 A8, 141 A9, 142 CVDD, 143 NC, 144 NC

## TPS2421
designator U?
footprint SOIC-8 (SOIC, 8-Leads, Body 5.0x4.0mm (max), Pitch 1.27mm, IPC Medium Density)
pins: 1 ~{FLT}, 2 ~{EN}, 3 VIN, 4 GND, 5 ISET, 6 CT, 7 VOUT, 8 ~{PG}

## TPS5450DDA
designator U?
pins: 1 BOOT, 2 NC, 3 NC, 4 VSNS, 5 ENA, 6 GND, 7 VIN, 8 PH, 9 PWPD

## TPS61165
designator *
pins: 1 VIN, 2 CTRL, 3 SW, 4 GND, 5 COMP, 6 FB

## TPS73230MDBVREP
designator U?, comment LDO-3.0V
TPS73230MDBVREP
pins: 1 IN, 2 GND, 3 EN, 4 NR, 5 OUT
text: TPS73230

## TPS76350
designator U?
pins: 1 IN, 2 GND, 3 EN, 4 NC/FB, 5 OUT

## TPS259271
designator U?
pins: 0 GND, 1 dV/dT, 2 EN/UVLO, 3 VIN, 4 VIN, 5 VIN, 6 OUT, 7 OUT, 8 OUT, 9 BFET, 10 LIM

## TXAL-3
designator Y?, comment 8M
pins: 1 OSCIN, 2 GND, 3 OSCOUT

## USB
designator CN?
pins: 1 VBUS, 2 D-, 3 D+, 4 GND, 5, 5

## USB4P
designator *
pins: 1 NC, 2 D-, 3 D+, 4 GND

## XTAL
designator Y?, comment 8M
Crystal Oscillator; Published: 8-Jun-2000; LatestRevisionDate: 17-Jul-2002; LatestRevisionNote: Re-released for DXP Platform.; PackageReference: R38; Publisher: Altium Limited
pins: 1 OSC1, 2 OSC2

## 保险丝
designator F?
footprint C-1210C
pins: 1, 2

## 光耦-4p
designator U?, comment 4PIN光耦
4-Pin Phototransistor Optocoupler; Published: 24-Mar-1999; LatestRevisionDate: 04-Mar-2005; LatestRevisionNote: Sch pins 3 & 4 Swapped.; DatasheetVersion: Nov-2003; PackageReference: DIP-4; Publisher: Altium Limited
footprint 4P-光耦
pins: 1 A "Anode", 2 K "Cathode", 3 E "Emitter", 4 C "Collector"

## 六引脚开关
designator K?  (value not drawn)
8*8 6脚,oahe
pins: 1, 2, 3, 4, 5, 6

## 单向TVS管
designator T?
footprint SOD-323
pins: 1 A, 2 K

## 单路双向ESD
designator *
pins: 1, 2

## 双向TVS管
designator T?  (value not drawn)
footprint SOT-233-2(PESD2CAN)
pins: 1, 2, 3

## 可调电阻
designator *
pins: 1, 2, *

## 扼流线圈
designator U9, comment ACT45B-110-2P-TL003
B82793C0/S0
footprint ACT45B-2P
pins: 1, 2, 3, 4

## 拨动开关
designator *
pins: 1 S, 2 X, 3 COM

## 有源晶振
designator *
pins: 1 E/D, 2 GND, 3 OUTPUT, 4 VDD

## 测试点
designator *
footprint 测试点
pins: 1

## 白色探针
designator TP?, comment 5007  (value not drawn)
Test Point, Compact, White, TH; Manufacturer: Keystone; CompType: Test Point Loop; U/M: EA; SymbolVersion: 2008-04-04; PartNumber: 5007; Value: White; PackageReference: White Compact Testpoint; RoHS: Y; MountType: TH; ComponentLink1Description: Datasheet Link; ComponentLink1URL: http://www.keyelco.com/userAssets/file/M60-2p60.pdf; Publisher: Texas Instruments; LatestRevisionDate: 2013-09-12; Supplier 1: Digi-Key; Supplier Part Number 1: 5007K-ND
pins: 1

## 红色探针
designator TP?, comment 5005  (value not drawn)
Test Point, Compact, Red, TH; Manufacturer: Keystone; CompType: Test Point Loop; U/M: EA; SymbolVersion: 2008-04-04; PartNumber: 5005; Value: Red; PackageReference: Red Compact Testpoint; RoHS: Y; MountType: TH; ComponentLink1Description: Datasheet Link; ComponentLink1URL: http://www.keyelco.com/userAssets/file/M60-2p60.pdf; Publisher: Texas Instruments; LatestRevisionDate: 2013-12-17; Supplier 1: Digi-Key; Supplier Part Number 1: 5005K-ND
pins: 1

## 继电器
designator U?
pins: 1, 2, 3, 4, 5

## 黑色探针
designator TP?
pins: 1